# Altium footprint library PCB - CONNECTOR - MOLEX - MOLEX 0559321110.PcbLib: 1 footprints
Each footprint in its own frame and in the unit in brackets; x right, y up, seen from the top. Pads: shape width x height; smd on the part's side, far side on the other; paste and mask are expansions set on the pad; w line width, h text height; cw(c..) or ccw(c..) is an arc to the next point about the centre after c.
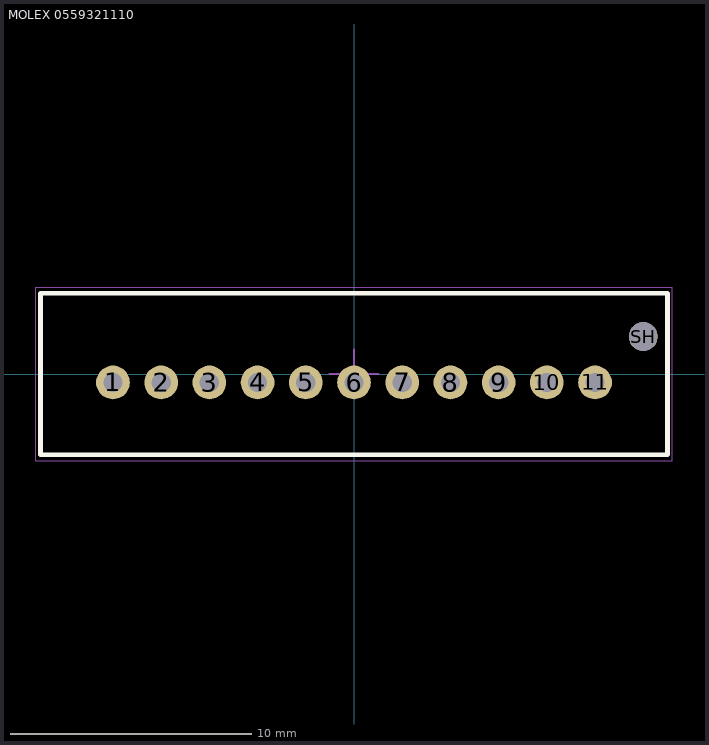
[diagram p0: the footprint, top view; thin cyan lines are the x and y axes]

## MOLEX 0559321110 [mm] "Connector Header Through Hole 11 position, 2mm Pitch, 26x6.7mm Body"
height 9.75
pads (12):
  round 1.4 hole 0.8: 1(-10,-0.35) 2(-8,-0.35) 3(-6,-0.35) 4(-4,-0.35) 5(-2,-0.35) 6(0,-0.35) 7(2,-0.35) 8(4,-0.35) 9(6,-0.35) 10(8,-0.35) 11(10,-0.35)
  round 1.2 hole 1.2: SH(12,1.55)
Top Overlay:
  lines w0.2: -13,-3.35 13,-3.35 13,3.35 -13,3.35 -13,-3.35
Mechanical 13:
  lines w0.1: -13,-3.35 -13,3.35 13,3.35 13,-3.35 -13,-3.35
Mechanical 15 (Mech15):
  lines w0.05: -13.2,-3.6 -13.2,3.6 13.2,3.6 13.2,-3.6 -13.2,-3.6
  lines w0.1: -1,0 0,0 ; 0,-1 0,0 ; 0,1 0,0 ; 1,0 0,0
3D body: height 9.75, standoff -3.2, extent -13,-3.35 13,3.35